# EAGLE library part LDFPVR (library LDFPVR)
STMicroelectronics LDFPVR, LDO Voltage Regulator, Adjustable 1A, 0.8 12 V +/-1.5%, 6-Pin DFN Source: Datasheet <http://www.st.com/content/ccc/resource/technical/document/datasheet/3e/64/32/d3/73/04/4a/70/DM00099995.pdf/files/DM00099995.pdf/jcr:content/translations/en.DM00099995.pdf>
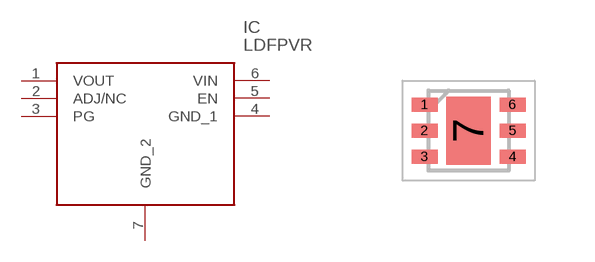
[diagram p0: symbol with the pads of SON65P200X200X100-7N; footprint SON65P200X200X100-7N]

Designator prefix IC

## LDFPVR (Description: STMicroelectronics LDFPVR, LDO Voltage Regulator, Adjustable 1A, 0.8 12 V +/-1.5%, 6-Pin DFN; Height: 1mm; Manufacturer_Name: STMicroelectronics; Manufacturer_Part_Number: LDFPVR; Mouser_Part_Number: 511-LDFPVR; Mouser_Price-Stock: https://www.mouser.co.uk/ProductDetail/STMicroelectronics/LDFPVR?qs=xLDY6iXSiQbeQdnd6kJYEg%3D%3D)  [SON65P200X200X100-7N]
1  VOUT
2  ADJ/NC
3  PG
4  GND_1
5  EN
6  VIN
7  GND_2

## Footprint SON65P200X200X100-7N (pad centres in mm)
DFN6 (2x2)+1
smd 0.65 x 0.35: 1 -1.1,0.65; 2 -1.1,0; 3 -1.1,-0.65; 4 1.1,-0.65; 5 1.1,0; 6 1.1,0.65
smd 1.1 x 1.7: 7 0,0